# EAGLE library part RV-2123-C2 (library seb)
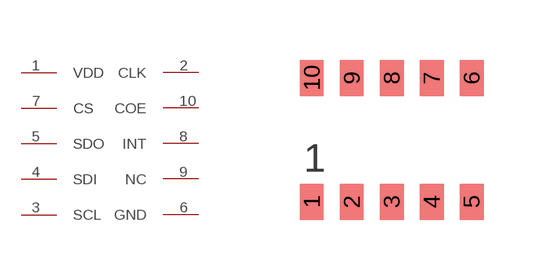
[diagram p18: symbol with the pads of RV-2123-C2; footprint RV-2123-C2]

Designator prefix IC

## RV-2123-C2  [RV-2123-C2]
1  VDD
2  CLK
3  SCL
4  SDI
5  SDO
6  GND
7  CS
8  INT
9  NC
10  COE

## Footprint RV-2123-C2 (pad centres in mm)
smd 0.6 x 0.9: 1 -2,-1.55; 2 -1,-1.55; 3 0,-1.55; 4 1,-1.55; 5 2,-1.55; 6 2,1.55; 7 1,1.55; 8 0,1.55; 9 -1,1.55; 10 -2,1.55